# Altium footprint library QFP50P700X700X120-32N.PcbLib: 1 footprints
Each footprint in its own frame and in the unit in brackets; x right, y up, seen from the top. Pads: shape width x height; smd on the part's side, far side on the other; paste and mask are expansions set on the pad; w line width, h text height; cw(c..) or ccw(c..) is an arc to the next point about the centre after c.
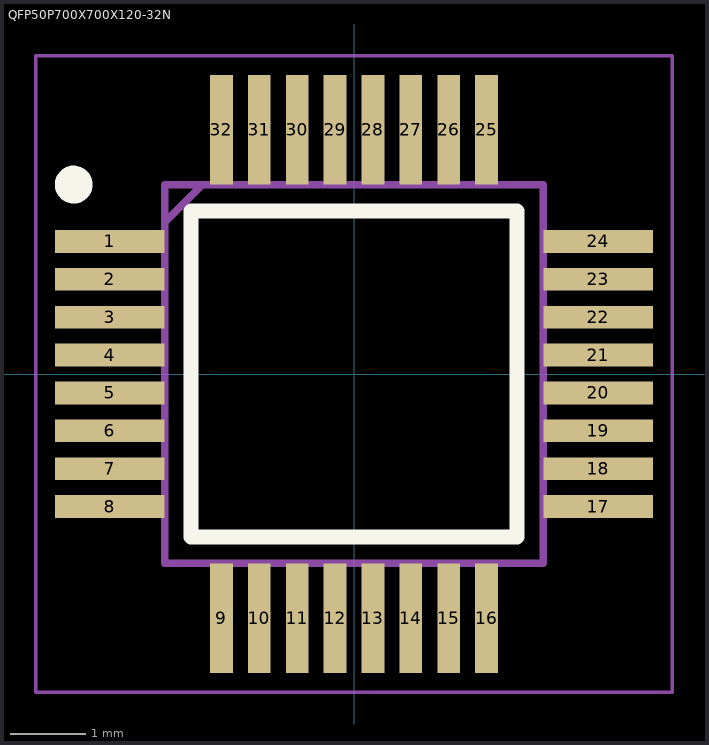
[diagram p0: the footprint, top view; thin cyan lines are the x and y axes]

## QFP50P700X700X120-32N [mm]
pads (32):
  rect 1.45x0.3 smd: 1(-3.225,1.75) 2(-3.225,1.25) 3(-3.225,0.75) 4(-3.225,0.25) 5(-3.225,-0.25) 6(-3.225,-0.75) 7(-3.225,-1.25) 8(-3.225,-1.75) 17(3.225,-1.75) 18(3.225,-1.25) 19(3.225,-0.75) 20(3.225,-0.25) 21(3.225,0.25) 22(3.225,0.75) 23(3.225,1.25) 24(3.225,1.75)
  rect 0.3x1.45 smd: 9(-1.75,-3.225) 10(-1.25,-3.225) 11(-0.75,-3.225) 12(-0.25,-3.225) 13(0.25,-3.225) 14(0.75,-3.225) 15(1.25,-3.225) 16(1.75,-3.225) 25(1.75,3.225) 26(1.25,3.225) 27(0.75,3.225) 28(0.25,3.225) 29(-0.25,3.225) 30(-0.75,3.225) 31(-1.25,3.225) 32(-1.75,3.225)
Top Overlay:
  circle w0.25: c-3.7,2.5 r0.125
  lines w0.2: -2.15,-2.15 2.15,-2.15 2.15,2.15 -2.15,2.15 -2.15,-2.15
Mechanical 13:
  lines w0.1: -2.5,2 -2,2.5 ; -2.5,-2.5 2.5,-2.5 2.5,2.5 -2.5,2.5 -2.5,-2.5
Mechanical 15:
  lines w0.05: -4.2,-4.2 4.2,-4.2 4.2,4.2 -4.2,4.2 -4.2,-4.2
3D body "TVP5150AM1PBS.stp": height 1.2, standoff 0, extent -3.5,-3.5 3.5,3.5